# EAGLE library part TX2-5V (library TX2-5V)
Low Signal Relays - PCB 2A 5VDC DPDT NON-LATCHING PCB Source: Datasheet <https://www.panasonic-electric-works.com/pew/hu/downloads/ds_61022_en_tx.pdf>
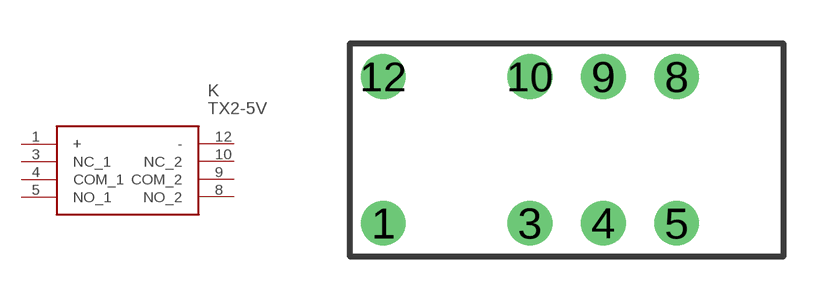
[diagram p0: symbol with the pads of TX2-24V; footprint TX2-24V]

Designator prefix K

## TX2-5V (DESCRIPTION: Low Signal Relays - PCB 2A 5VDC DPDT NON-LATCHING PCB; HEIGHT: mm; MANUFACTURER_NAME: Panasonic; MANUFACTURER_PART_NUMBER: TX2-5V; MOUSER_PART_NUMBER: 769-TX2-5V; MOUSER_PRICE-STOCK: https://www.mouser.co.uk/ProductDetail/Panasonic-Industrial-Devices/TX2-5V?qs=HLLy2pIPwuvI6H6PvuEgKw%3D%3D)  [TX2-24V]
1  +
3  NC_1
4  COM_1
5  NO_1
8  NO_2
9  COM_2
10  NC_2
12  -

## Footprint TX2-24V (pad centres in mm)
TX2-24V
drill 1 pad 1.55: 1 1.15,-2.54; 3 6.23,-2.54; 4 8.77,-2.54; 5 11.31,-2.54; 8 11.31,2.54; 9 8.77,2.54; 10 6.23,2.54; 12 1.15,2.54